# Altium schematic symbol library WB_CHIP.SchLib: 3 symbols
Pins are listed as number, name and electrical type; pins without a type are passive.

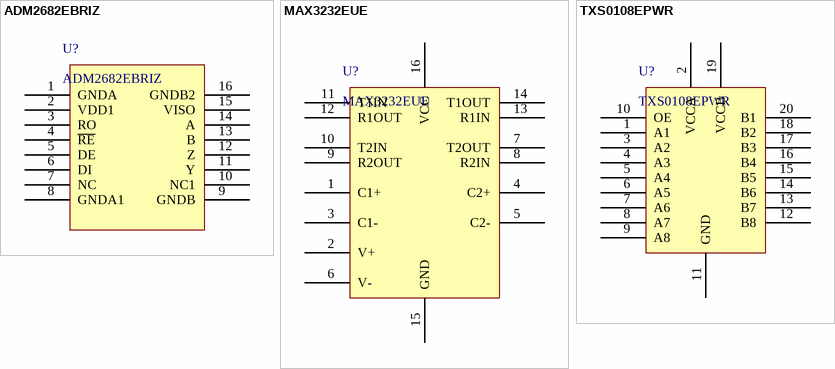
[diagram p0: symbols ADM2682EBRIZ to TXS0108EPWR]

## ADM2682EBRIZ
designator U?
pins: 1 GNDA, 2 VDD1, 3 RO, 4 ~{RE}, 5 DE, 6 DI, 7 NC, 8 GNDA1, 9 GNDB, 10 NC1, 11 Y, 12 Z, 13 B, 14 A, 15 VISO, 16 GNDB2

## MAX3232EUE
designator U?
pins: 1 C1+, 2 V+, 3 C1-, 4 C2+, 5 C2-, 6 V-, 7 T2OUT, 8 R2IN, 9 R2OUT, 10 T2IN, 11 T1IN, 12 R1OUT, 13 R1IN, 14 T1OUT, 15 GND, 16 VCC

## TXS0108EPWR
designator U?
pins: 1 A1, 2 VCCA, 3 A2, 4 A3, 5 A4, 6 A5, 7 A6, 8 A7, 9 A8, 10 OE, 11 GND, 12 B8, 13 B7, 14 B6, 15 B5, 16 B4, 17 B3, 18 B2, 19 VCCB, 20 B1